# EAGLE library part BM-S02 (library DECADE-libraries20151104)
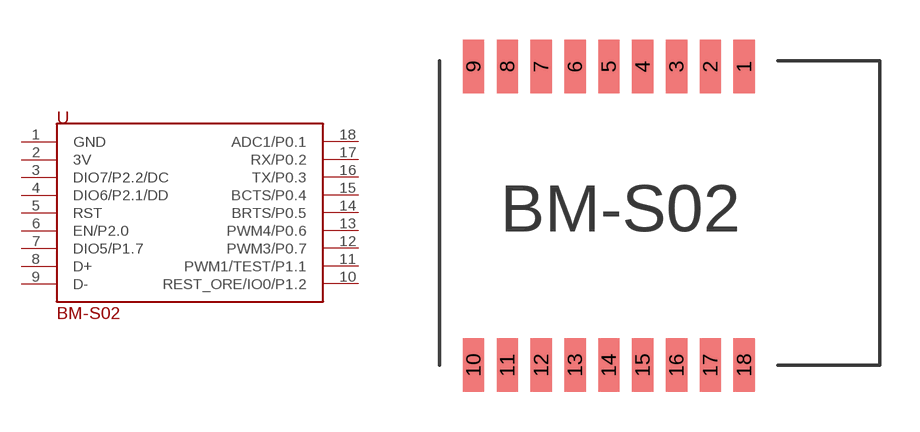
[diagram p105: symbol with the pads of BM-S02; footprint BM-S02]

Designator prefix -

## BM-S02  [BM-S02]
1  GND
2  3V
3  DIO7/P2.2/DC
4  DIO6/P2.1/DD
5  RST
6  EN/P2.0
7  DIO5/P1.7
8  D+
9  D-
10  REST_ORE/IO0/P1.2
11  PWM1/TEST/P1.1
12  PWM3/P0.7
13  PWM4/P0.6
14  BRTS/P0.5
15  BCTS/P0.4
16  TX/P0.3
17  RX/P0.2
18  ADC1/P0.1

## Footprint BM-S02 (pad centres in mm)
smd 0.8 x 2: 1 5.16,5.2; 2 3.89,5.2; 3 2.62,5.2; 4 1.35,5.2; 5 0.08,5.2; 6 -1.19,5.2; 7 -2.46,5.2; 8 -3.73,5.2; 9 -5,5.2; 10 -5,-6; 11 -3.73,-6; 12 -2.46,-6; 13 -1.19,-6; 14 0.08,-6; 15 1.35,-6; 16 2.62,-6; 17 3.89,-6; 18 5.16,-6